# EAGLE library part ADS8341 (library burr-brown-ADS8341)
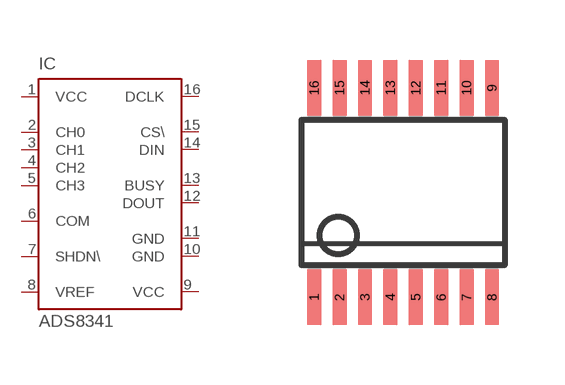
[diagram p0: symbol with the pads of SSOP16; footprint SSOP16]

Designator prefix IC

## ADS8341  [SSOP16]
1  VCC  pwr
2  CH0  in
3  CH1  in
4  CH2  in
5  CH3  in
6  COM  in
7  SHDN\  in
8  VREF  in
9  VCC  pwr
10  GND  pwr
11  GND  pwr
12  DOUT  out
13  BUSY  out
14  DIN  in
15  CS\  in
16  DCLK  in

## Footprint SSOP16 (pad centres in mm)
Small Shrink Outline Package Source: http://focus.ti.com/lit/ml/msoi004e/msoi004e.pdf
smd 0.348 x 1.397: 1 -2.223,-2.619; 2 -1.588,-2.62; 3 -0.953,-2.62; 4 -0.318,-2.62; 5 0.318,-2.62; 6 0.953,-2.62; 7 1.588,-2.62; 8 2.223,-2.62; 9 2.223,2.62; 10 1.588,2.62; 11 0.953,2.62; 12 0.318,2.62; 13 -0.318,2.62; 14 -0.953,2.62; 15 -1.588,2.62; 16 -2.223,2.62